# EAGLE library part CON_11P_2 (library DSS)
PIN HEADER
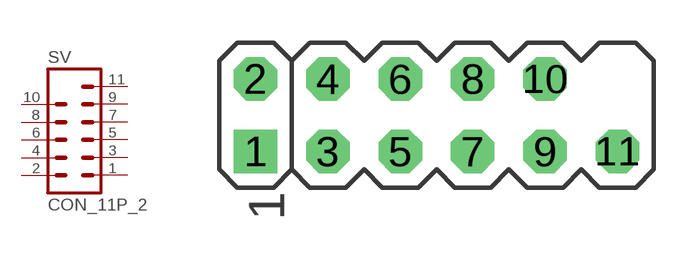
[diagram p14: symbol with the pads of CON_11P_2; footprint CON_11P_2]

Designator prefix SV

## CON_11P_2 (OC_FARNELL: unknown; OC_NEWARK: unknown)  [CON_11P_2]
1  1  pas
2  2  pas
3  3  pas
4  4  pas
5  5  pas
6  6  pas
7  7  pas
8  8  pas
9  9  pas
10  10  pas
11  11  pas

## Footprint CON_11P_2 (pad centres in mm)
PIN HEADER
drill 1.016 square: 1 -6.35,-1.27
drill 1.016 octagon: 2 -6.35,1.27; 3 -3.81,-1.27; 4 -3.81,1.27; 5 -1.27,-1.27; 6 -1.27,1.27; 7 1.27,-1.27; 8 1.27,1.27; 9 3.81,-1.27; 10 3.81,1.27; 11 6.35,-1.27